# Altium footprint library 电源开关.PcbLib: 16 footprints
Each footprint in its own frame and in the unit in brackets; x right, y up, seen from the top. Pads: shape width x height; smd on the part's side, far side on the other; paste and mask are expansions set on the pad; w line width, h text height; cw(c..) or ccw(c..) is an arc to the next point about the centre after c.
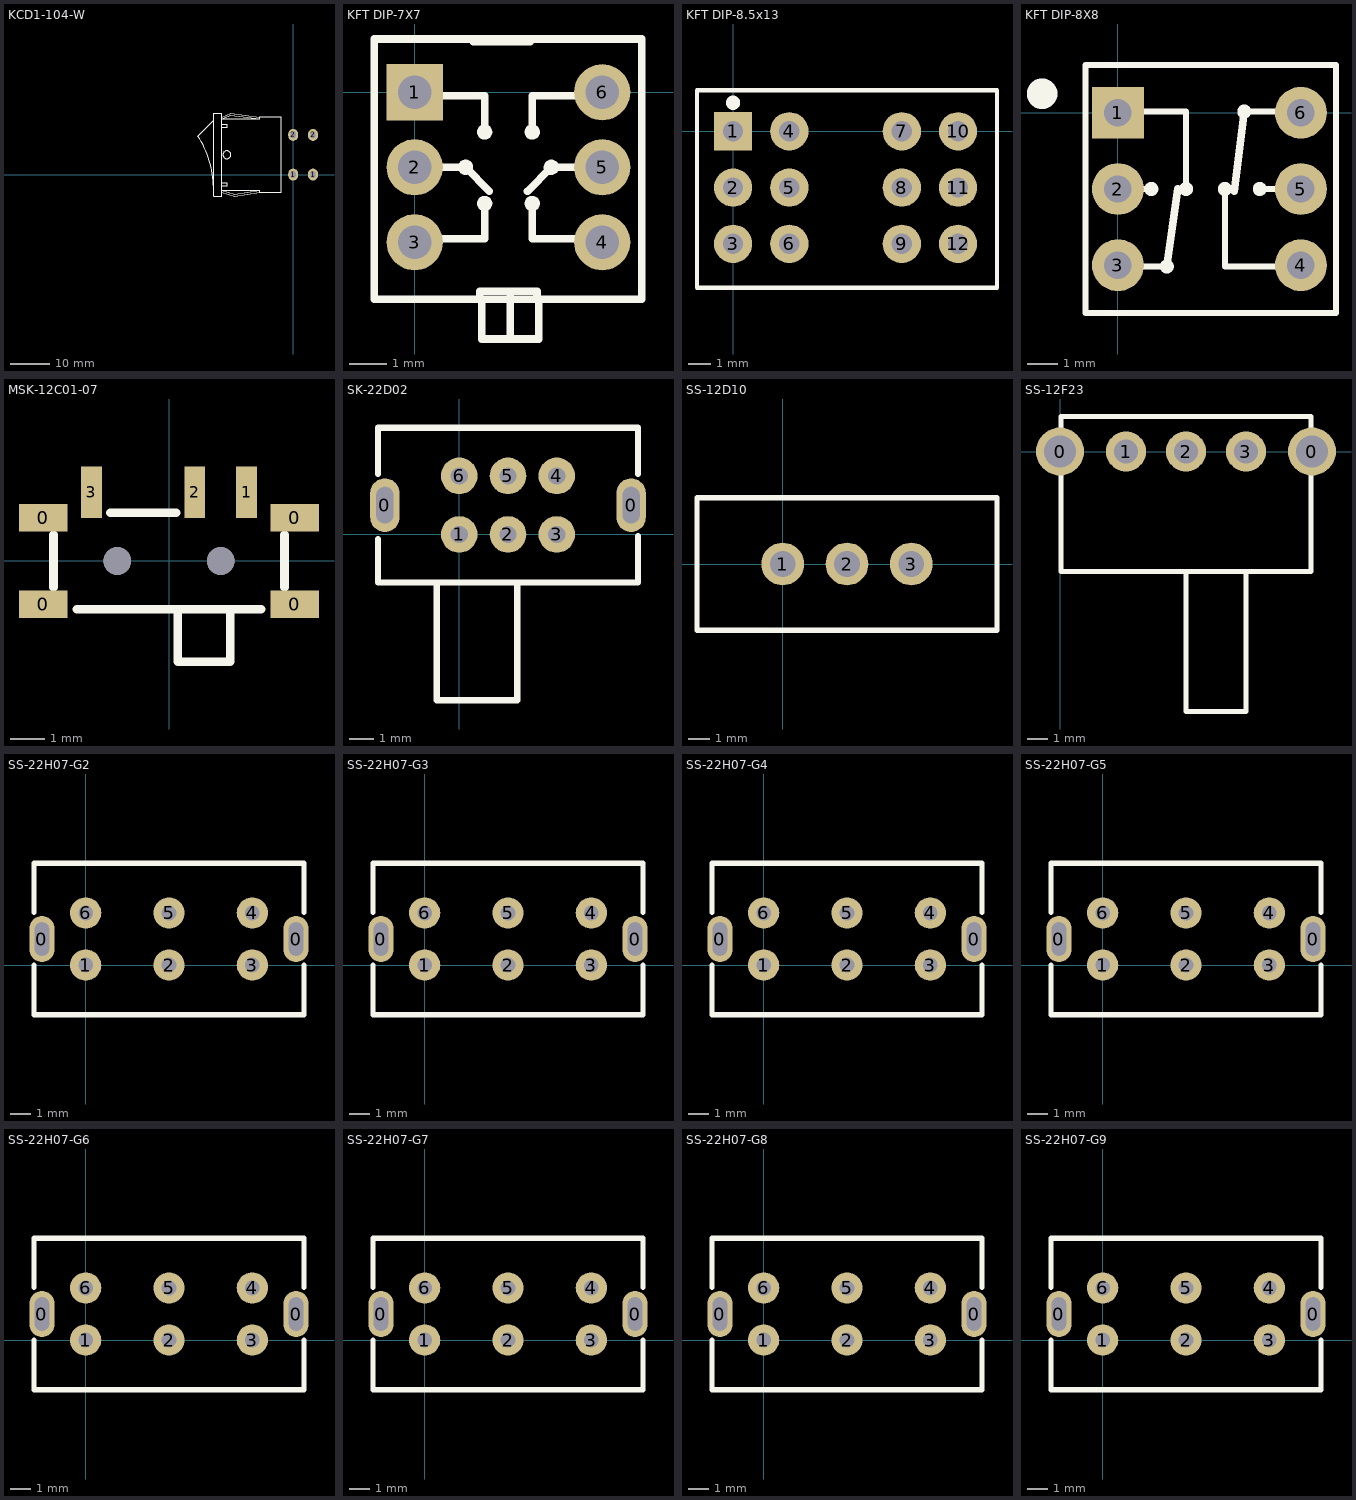
[diagram p0: the footprints below, top view; thin cyan lines are the x and y axes]

## KCD1-104-W [mm]
pads (4):
  oval 2.5x3 hole 1.2 slot 1.7 at 90 deg mask+0: 1(0,0) 1(5,0) 2(0,10) 2(5,10)
Top Overlay:
  circle w0.1: c-16.7,5 r1
  lines w0.1: -20.041,-3.203 ccw(c-44.537,-3.63) -23.99,9.714 -19.994,13.71 ; -18,-4.5 -14.7,-5.5 -8.4,-4.5 ; -18,-4 -14.7,-5 -8.4,-4 ; -17.985,-4 -8.4,-4 ; -17.984,14.498 -15.684,15.498 -8.4,14.498 ; -17.972,-2.794 -16.575,-2.794 -16.575,-2.007 -17.972,-2.007 ; -17.972,11.862 -16.575,11.862 -16.575,12.649 -17.972,12.649 ; -8.4,13.995 -8.4,14.503 ; -8.4,14.5 -3,14.5 -3,-4.5 -8.4,-4.5 ; -8.4,-4.5 -8.4,-4 ; -20,-5.5 -18,-5.5 -18,15.5 -20,15.5 -20,-5.5 ; -17.984,13.998 -8.4,13.998 -15.684,14.998 -17.984,13.998
3D body "KCD1-104-W.STEP": height 15.1, standoff -3.35, extent -24.139,-5.871 5.461,16.031

## KFT DIP-7X7 [mm]
pads (6):
  rect 1.5x1.5 hole 0.9: 1(0,0)
  round 1.5 hole 0.9: 2(0,-2) 3(0,-4) 4(5,-4) 5(5,-2) 6(5,0)
Top Overlay:
  circle w0.254: c1.357,-2 r0.076
  circle w0.254: c3.643,-2 r0.076
  circle w0.254: c1.865,-2.965 r0.076
  circle w0.254: c3.135,-2.965 r0.076
  circle w0.254: c1.865,-1.06 r0.076
  circle w0.254: c3.135,-1.06 r0.076
  lines w0.203: -0.04,-3.905 0.976,-3.905 1.865,-3.905 1.865,-2.889 ; -0.04,-2 1.357,-2 1.992,-2.635 ; -0.04,-0.095 1.865,-0.095 1.865,-0.984 ; 1.56,1.344 3.084,1.344 ; 1.738,-5.514 1.738,-5.309 3.262,-5.309 3.262,-5.514 ; 1.788,-5.563 1.788,-6.579 3.312,-6.579 3.312,-5.563 ; 2.55,-6.579 2.55,-5.436 ; 3.008,-2.635 3.643,-2 5.04,-2 ; 3.135,-2.889 3.135,-3.905 5.04,-3.905 ; 3.135,-0.984 3.135,-0.095 5.04,-0.095 ; -1.081,-5.514 5.04,-5.514 6.056,-5.514 6.056,1.42 -1.081,1.42 -1.081,-5.514
3D body "KFT DIP-7X7.STEP": height 11.2, standoff -3.2, extent -1.087,-5.461 5.913,1.539

## KFT DIP-8.5x13 [mm]
pads (12):
  rect 1.7x1.7 hole 0.9: 1(0,0)
  round 1.7 hole 0.9: 2(0,-2.5) 3(0,-5) 4(2.5,0) 5(2.5,-2.5) 6(2.5,-5) 7(7.5,0) 8(7.5,-2.5) 9(7.5,-5) 10(10,0) 11(10,-2.5) 12(10,-5)
Top Overlay:
  circle w0.381: c0,1.27 r0.127
  lines w0.2: -1.604,-6.945 -1.604,1.818 11.731,1.818 11.731,-6.945 -1.604,-6.945
3D body "KFT DIP-8.5x13.STEP": height 14, standoff -3.2, extent -1.547,-6.731 11.453,1.769

## KFT DIP-8X8 [mm]
pads (6):
  rect 1.7x1.7 hole 0.9: 1(0,0)
  round 1.7 hole 0.9: 2(0,-2.5) 3(0,-5) 4(6,-5) 5(6,-2.5) 6(6,0)
Top Overlay:
  circle w0.254: c4.143,0.04 r0.102
  circle w0.254: c4.651,-2.5 r0.102
  circle w0.254: c1.095,-2.5 r0.102
  circle w0.254: c1.603,-5.04 r0.102
  circle w0.254: c3.508,-2.5 r0.102
  circle w0.254: c2.238,-2.5 r0.102
  circle w0.6: c-2.486,0.624 r0.2
  lines w0.2: -1.064,-6.564 -1.064,1.564 7.153,1.564 7.153,-6.564 -1.064,-6.564
  lines w0.203: -0.048,-5.04 1.603,-5.04 ; -0.048,-2.5 1.229,-2.5 ; -0.048,0.04 2.238,0.04 2.238,-2.5 ; 3.508,-2.5 3.508,-5.04 5.794,-5.04 ; 4.143,0.04 5.794,0.04 ; 4.6,-2.5 5.794,-2.5
  lines w0.254: 1.603,-5.04 1.959,-2.5 ; 3.813,-2.576 4.143,0.04
3D body "KFT DIP-8X8.STEP": height 13.1, standoff -3.2, extent -1.079,-6.476 6.921,1.524

## MSK-12C01-07 [mm]
pads (9):
  rect 1.4x0.8 smd: 0(-3.65,-1.25) 0(-3.65,1.25) 0(3.65,-1.25) 0(3.65,1.25)
  rect 0.6x1.5 smd: 1(2.25,1.996) 2(0.75,1.996) 3(-2.25,1.996)
  round 0.8 hole 0.8: " "(-1.5,0) " "(1.5,0)
Top Overlay:
  lines w0.254: -3.35,-0.762 -3.35,0.762 ; -2.667,-1.397 2.667,-1.397 ; -1.699,1.397 0.206,1.397 ; 0.254,-1.4 0.254,-2.921 1.778,-2.921 1.778,-1.4 ; 3.35,-0.762 3.35,0.762
3D body "MSK-12C01-07.STEP": height 1.5, standoff -0.5, extent -3.92,-2.887 3.92,2.413

## SK-22D02 [mm]
pads (8):
  oval 1.2x2.2 hole 0.7 slot 1.5 at 90 deg: 0(-3.05,1.2) 0(7.05,1.2)
  round 1.5 hole 0.7: 1(0,0) 2(2,0) 3(4,0) 4(4,2.4) 5(2,2.4) 6(0,2.4)
Top Overlay:
  lines w0.25: -3.334,-0.197 -3.334,-1.975 7.334,-1.975 7.334,-0.07 ; -3.334,2.47 -3.334,4.375 7.334,4.375 7.334,2.47 ; -0.921,-1.975 -0.921,-6.801 2.381,-6.801 2.381,-1.975
3D body "SK-22D02.STEP": height 5.59, standoff -2.61, extent -3.355,-6.692 7.165,4.318

## SS-12D10 [mm]
pads (3):
  round 2 hole 1.2: 1(0,0) 2(3,0) 3(6,0)
Top Overlay:
  lines w0.254: -4,-3.1 10,-3.1 10,3.1 -4,3.1 -4,-3.1
3D body "SS-12D10.STEP": height 9.65, standoff -2.6, extent -3.952,-3.152 10.048,3.048

## SS-12F23 [mm]
pads (5):
  round 2.4 hole 1.6: 0(0,0) 0(12.6,0)
  round 2 hole 1.2: 1(3.3,0) 2(6.3,0) 3(9.3,0)
Top Overlay:
  lines w0.254: 6.3,-6 6.3,-13 9.3,-13 9.3,-6 ; 0.05,-6 12.55,-6 12.55,0 12.55,1.5 12.55,1.75 0.05,1.75 0.05,0 0.05,-6
3D body "SS-12F23.STEP": height 5.75, standoff -3.35, extent -0.144,-12.265 12.856,0.635

## SS-22H07-G2 [mm]
pads (8):
  oval 1.2x2.2 hole 0.7 slot 1.6 at 90 deg: 0(-2.1,1.25) 0(10.1,1.25)
  round 1.5 hole 0.7: 1(0,0) 2(4,0) 3(8,0) 4(8,2.5) 5(4,2.5) 6(0,2.5)
Top Overlay:
  lines w0.25: -2.477,0 -2.477,-2.382 10.477,-2.382 10.477,0 ; -2.477,2.52 -2.477,4.882 10.477,4.882 10.477,2.52
3D body "SS-22H07-G2.STEP": height 6.7, standoff -3.3, extent -2.287,-2.286 10.415,4.716

## SS-22H07-G3 [mm]
pads (8):
  oval 1.2x2.2 hole 0.7 slot 1.6 at 90 deg: 0(-2.1,1.25) 0(10.1,1.25)
  round 1.5 hole 0.7: 1(0,0) 2(4,0) 3(8,0) 4(8,2.5) 5(4,2.5) 6(0,2.5)
Top Overlay:
  lines w0.25: -2.477,0 -2.477,-2.382 10.477,-2.382 10.477,0 ; -2.477,2.52 -2.477,4.882 10.477,4.882 10.477,2.52
3D body "SS-22H07-G3.STEP": height 7.7, standoff -3.3, extent -2.415,-2.231 10.287,4.771

## SS-22H07-G4 [mm]
pads (8):
  oval 1.2x2.2 hole 0.7 slot 1.6 at 90 deg: 0(-2.1,1.25) 0(10.1,1.25)
  round 1.5 hole 0.7: 1(0,0) 2(4,0) 3(8,0) 4(8,2.5) 5(4,2.5) 6(0,2.5)
Top Overlay:
  lines w0.25: -2.477,0 -2.477,-2.382 10.477,-2.382 10.477,0 ; -2.477,2.52 -2.477,4.882 10.477,4.882 10.477,2.52
3D body "SS-22H07-G4.STEP": height 8.7, standoff -3.3, extent -2.286,-2.231 10.416,4.771

## SS-22H07-G5 [mm]
pads (8):
  oval 1.2x2.2 hole 0.7 slot 1.6 at 90 deg: 0(-2.1,1.25) 0(10.1,1.25)
  round 1.5 hole 0.7: 1(0,0) 2(4,0) 3(8,0) 4(8,2.5) 5(4,2.5) 6(0,2.5)
Top Overlay:
  lines w0.25: -2.477,0 -2.477,-2.382 10.477,-2.382 10.477,0 ; -2.477,2.52 -2.477,4.882 10.477,4.882 10.477,2.52
3D body "SS-22H07-G5.STEP": height 9.7, standoff -3.3, extent -2.414,-2.286 10.288,4.716

## SS-22H07-G6 [mm]
pads (8):
  oval 1.2x2.2 hole 0.7 slot 1.6 at 90 deg: 0(-2.1,1.25) 0(10.1,1.25)
  round 1.5 hole 0.7: 1(0,0) 2(4,0) 3(8,0) 4(8,2.5) 5(4,2.5) 6(0,2.5)
Top Overlay:
  lines w0.25: -2.477,0 -2.477,-2.382 10.477,-2.382 10.477,0 ; -2.477,2.52 -2.477,4.882 10.477,4.882 10.477,2.52
3D body "SS-22H07-G6.STEP": height 10.7, standoff -3.3, extent -2.414,-2.231 10.288,4.771

## SS-22H07-G7 [mm]
pads (8):
  oval 1.2x2.2 hole 0.7 slot 1.6 at 90 deg: 0(-2.1,1.25) 0(10.1,1.25)
  round 1.5 hole 0.7: 1(0,0) 2(4,0) 3(8,0) 4(8,2.5) 5(4,2.5) 6(0,2.5)
Top Overlay:
  lines w0.25: -2.477,0 -2.477,-2.382 10.477,-2.382 10.477,0 ; -2.477,2.52 -2.477,4.882 10.477,4.882 10.477,2.52
3D body "SS-22H07-G7.STEP": height 11.7, standoff -3.3, extent -2.287,-2.286 10.415,4.716

## SS-22H07-G8 [mm]
pads (8):
  oval 1.2x2.2 hole 0.7 slot 1.6 at 90 deg: 0(-2.1,1.25) 0(10.1,1.25)
  round 1.5 hole 0.7: 1(0,0) 2(4,0) 3(8,0) 4(8,2.5) 5(4,2.5) 6(0,2.5)
Top Overlay:
  lines w0.25: -2.477,0 -2.477,-2.382 10.477,-2.382 10.477,0 ; -2.477,2.52 -2.477,4.882 10.477,4.882 10.477,2.52
3D body "SS-22H07-G8.STEP": height 12.7, standoff -3.3, extent -2.286,-2.231 10.416,4.771

## SS-22H07-G9 [mm]
pads (8):
  oval 1.2x2.2 hole 0.7 slot 1.6 at 90 deg: 0(-2.1,1.25) 0(10.1,1.25)
  round 1.5 hole 0.7: 1(0,0) 2(4,0) 3(8,0) 4(8,2.5) 5(4,2.5) 6(0,2.5)
Top Overlay:
  lines w0.25: -2.477,0 -2.477,-2.382 10.477,-2.382 10.477,0 ; -2.477,2.52 -2.477,4.882 10.477,4.882 10.477,2.52
3D body "SS-22H07-G9.STEP": height 13.7, standoff -3.3, extent -2.414,-2.231 10.288,4.771